# Altium footprint library RTE44012F.PcbLib: 1 footprints
Each footprint in its own frame and in the unit in brackets; x right, y up, seen from the top. Pads: shape width x height; smd on the part's side, far side on the other; paste and mask are expansions set on the pad; w line width, h text height; cw(c..) or ccw(c..) is an arc to the next point about the centre after c.
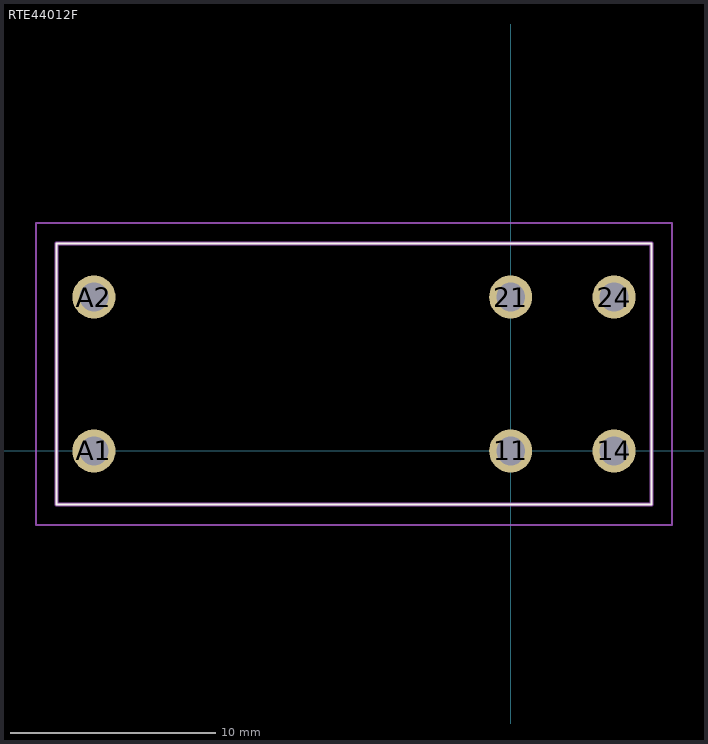
[diagram p0: the footprint, top view; thin cyan lines are the x and y axes]

## RTE44012F [mm]
pads (6):
  round 2.1 hole 1.4: 11(0,0) 14(5.04,0) 21(0,7.5) 24(5.04,7.5) A1(-20.3,0) A2(-20.3,7.5)
Top Overlay:
  lines w0.1: -22.13,-2.6 6.87,-2.6 6.87,10.1 -22.13,10.1 -22.13,-2.6
Mechanical 15:
  lines w0.2: -22.13,-2.6 6.87,-2.6 6.87,10.1 -22.13,10.1 -22.13,-2.6
Mechanical 20:
  lines w0.1: -23.13,-3.6 7.87,-3.6 7.87,11.1 -23.13,11.1 -23.13,-3.6